# Altium schematic symbol library SCH - LOGIC - SN74LVC2G14DBVR.Schlib: 1 symbol
Pins are listed as number, name and electrical type; pins without a type are passive.

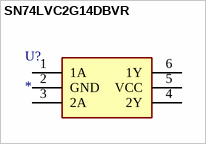
[diagram p0: symbol SN74LVC2G14DBVR]

## SN74LVC2G14DBVR
designator U?
Integrated Circuit
pins: 1 1A, 2 GND, 3 2A, 4 2Y, 5 VCC, 6 1Y